# EAGLE library part WE-DS_216111023 (library wurth_elektronik_passive_rev16d)
WE-DS D-SUB-Filter, Solder Pin Straight Characteristics Standard type filtered with 1000 pF High attenuation: max. ≥ 40 dB @ 180 MHz Choice of UNC 4/40 or through hole Rated voltage: 100 VDC Rated current @ 20 ºC: 5 A Withstand voltage: 250 VRMS Insulation resistance: min. 1000 MΩ Operating temperature: –55 ºC to +125 ºC Applications Filtering of interfaces External connection to -printer -sensor -display <http://katalog.we-online.de/media/images/v2/Family_D-SUB-Filter_mit_geradem_Ltstift.jpg> Details see: http://katalog.we-online.de/en/pbs/D-SUB-FILTER-STRAIGHT 2016 (C) Wurth Elektronik
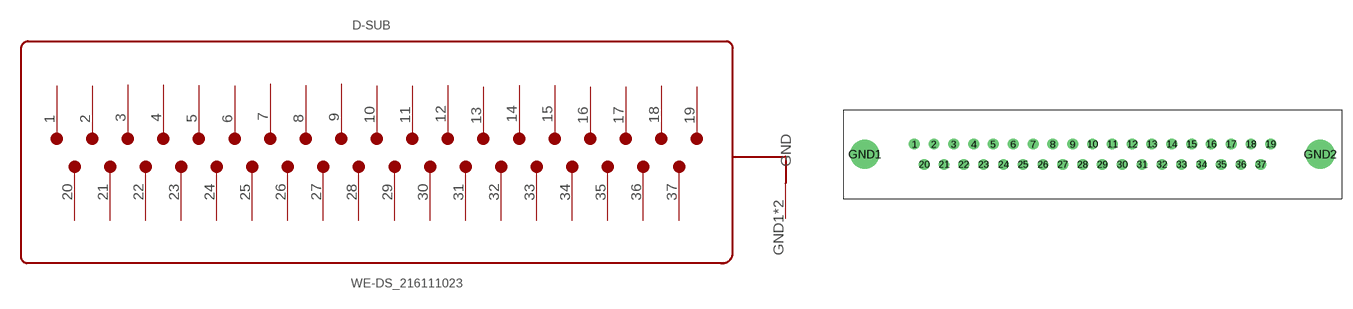
[diagram p236: symbol with the pads of WE-DS_2161110X3; footprint WE-DS_2161110X3]

Designator prefix D-SUB

## WE-DS_216111023  [WE-DS_2161110X3]
1  1
2  2
3  3
4  4
5  5
6  6
7  7
8  8
9  9
10  10
11  11
12  12
13  13
14  14
15  15
16  16
17  17
18  18
19  19
20  20
21  21
22  22
23  23
24  24
25  25
26  26
27  27
28  28
29  29
30  30
31  31
32  32
33  33
34  34
35  35
36  36
37  37
GND1  GND
GND2  GND

## Footprint WE-DS_2161110X3 (pad centres in mm)
drill 1: 1 -24.84,1.42; 2 -22.1,1.42; 3 -19.33,1.42; 4 -16.56,1.42; 5 -13.82,1.42; 6 -11.05,1.42; 7 -8.28,1.42; 8 -5.54,1.42; 9 -2.77,1.42; 10 0,1.42; 11 2.77,1.42; 12 5.54,1.42; 13 8.28,1.42; 14 11.05,1.42; 15 13.82,1.42; 16 16.56,1.42; 17 19.33,1.42; 18 22.1,1.42; 19 24.84,1.42; 20 -23.47,-1.42; 21 -20.7,-1.42; 22 -17.96,-1.42; 23 -15.19,-1.42; 24 -12.42,-1.42; 25 -9.68,-1.42; 26 -6.91,-1.42; 27 -4.14,-1.42; 28 -1.38,-1.42; 29 1.38,-1.42; 30 4.14,-1.42; 31 6.91,-1.42; 32 9.68,-1.42; 33 12.42,-1.42; 34 15.19,-1.42; 35 17.96,-1.42; 36 20.7,-1.42; 37 23.47,-1.42
drill 3: GND1 -31.75,0; GND2 31.75,0